# Altium schematic symbol library Integrated.SchLib: 69 symbols
Pins are listed as number, name and electrical type; pins without a type are passive.

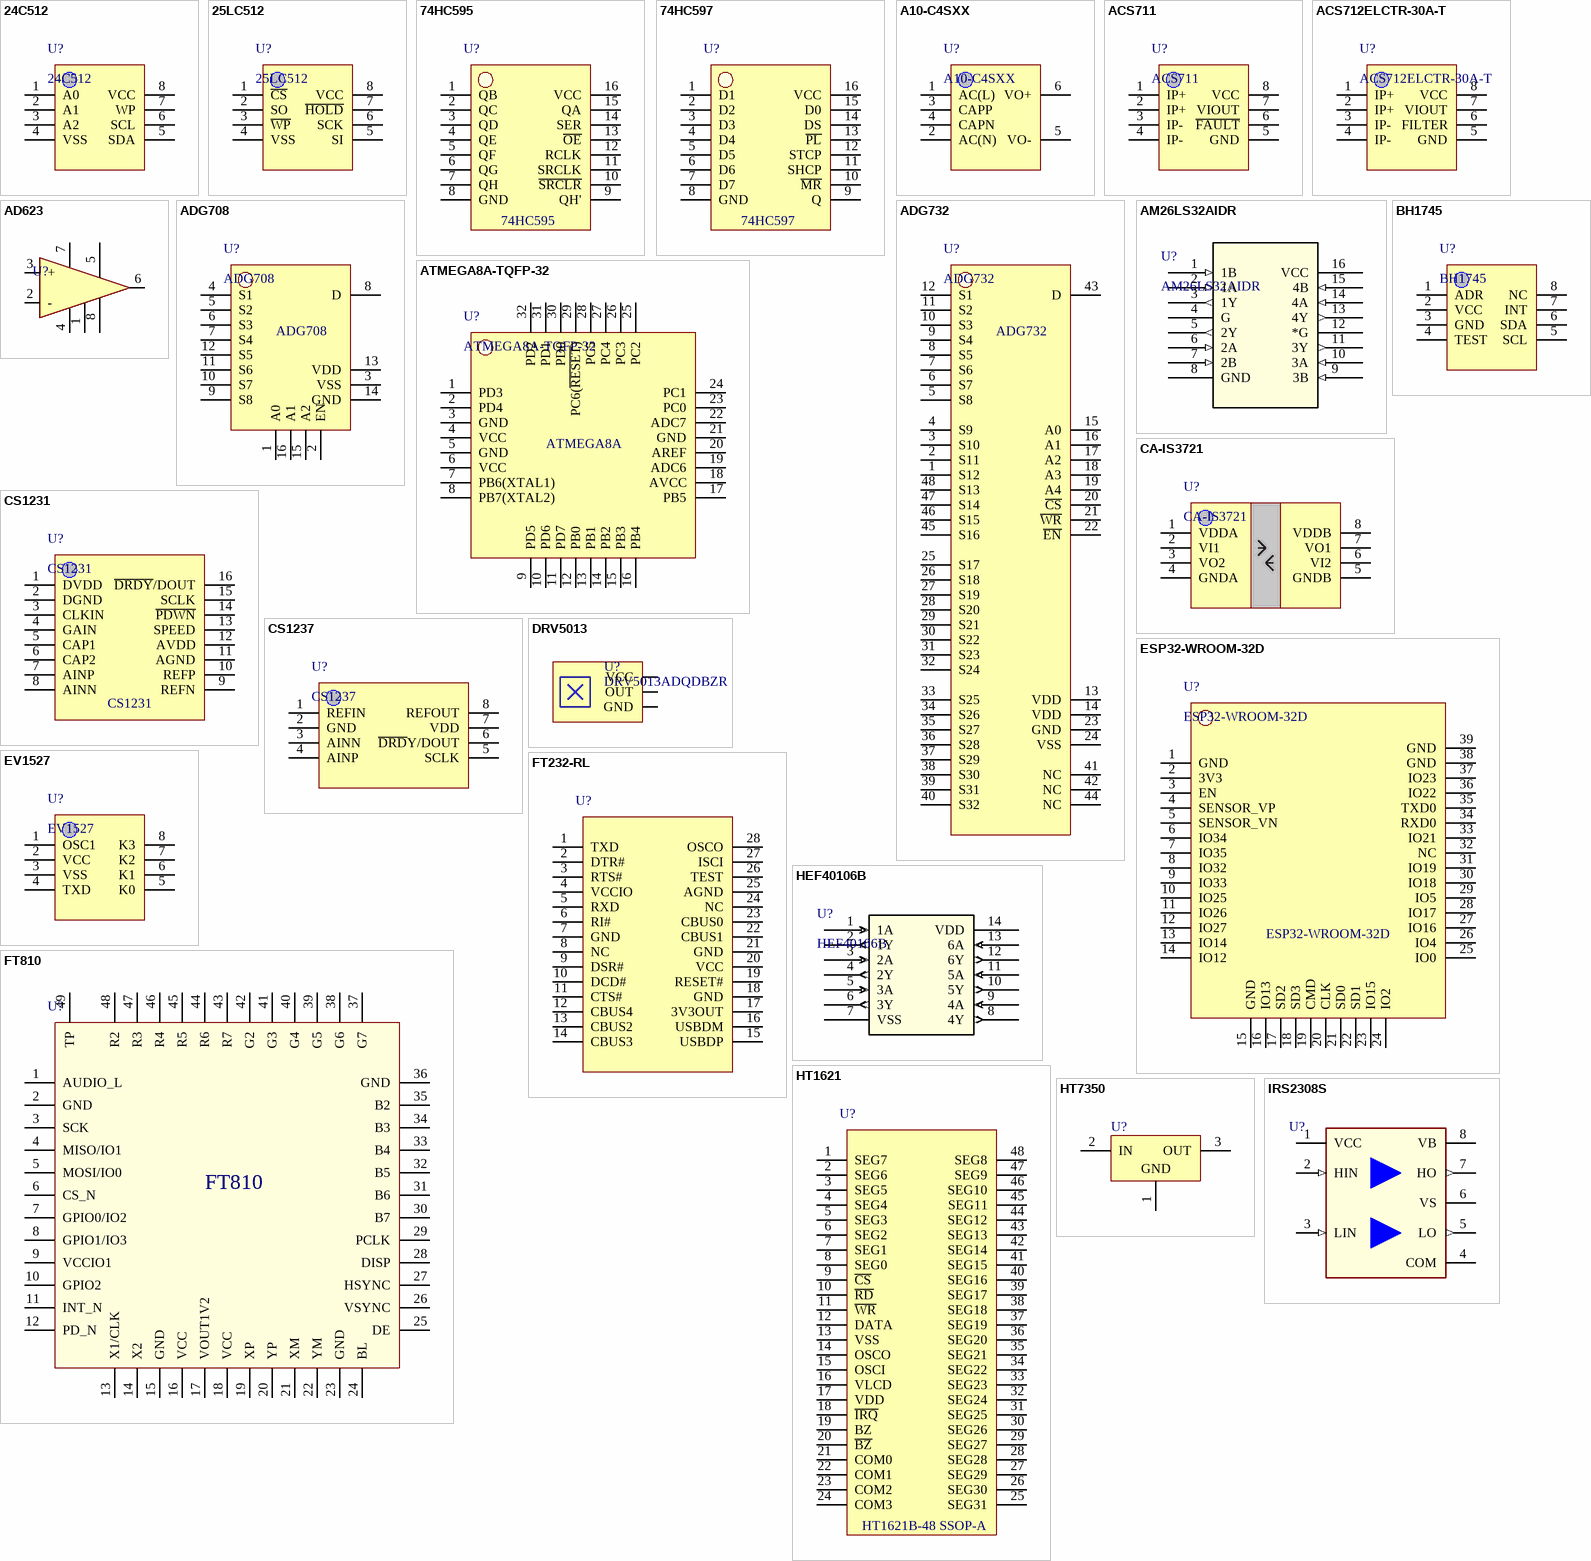
[diagram p0: symbols 24C512 to IRS2308S]

## 24C512
designator U?
footprint SOIC-8-M (SOIC, 8-Leads, Body 4.90x3.90mm, Pitch 1.27mm, IPC Low Density)
footprint SOIC-8-N (SOIC, 8-Leads, Body 4.90x3.90mm, Pitch 1.27mm, IPC Medium Density)
footprint SOIC-8-L (SOIC, 8-Leads, Body 4.90x3.90mm, Pitch 1.27mm, IPC High Density)
pins: 1 A0, 2 A1, 3 A2, 4 VSS, 5 SDA, 6 SCL, 7 WP, 8 VCC

## 25LC512
designator U?
footprint SOIC-8-M (SOIC, 8-Leads, Body 4.90x3.90mm, Pitch 1.27mm, IPC Low Density)
footprint SOIC-8-N (SOIC, 8-Leads, Body 4.90x3.90mm, Pitch 1.27mm, IPC Medium Density)
footprint SOIC-8-L (SOIC, 8-Leads, Body 4.90x3.90mm, Pitch 1.27mm, IPC High Density)
pins: 1 ~{CS}, 2 SO, 3 ~{WP}, 4 VSS, 5 SI, 6 SCK, 7 ~{HOLD}, 8 VCC

## 74HC595
designator U?  (value not drawn)
footprint SOIC-16-M (SOIC, 16-Leads, Body 9.90x3.90mm, Pitch 1.27mm, IPC Low Density)
footprint SOIC-16-N (SOIC, 16-Leads, Body 9.90x3.90mm, Pitch 1.27mm, IPC Medium Density)
footprint SOIC-16-L (SOIC, 16-Leads, Body 9.90x3.90mm, Pitch 1.27mm, IPC High Density)
pins: 1 QB, 2 QC, 3 QD, 4 QE, 5 QF, 6 QG, 7 QH, 8 GND, 9 QH', 10 ~{SRCLR}, 11 SRCLK, 12 RCLK, 13 ~{OE}, 14 SER, 15 QA, 16 VCC

## 74HC597
designator U?  (value not drawn)
footprint SOIC-16-M (SOIC, 16-Leads, Body 9.90x3.90mm, Pitch 1.27mm, IPC Low Density)
footprint SOIC-16-N (SOIC, 16-Leads, Body 9.90x3.90mm, Pitch 1.27mm, IPC Medium Density)
footprint SOIC-16-L (SOIC, 16-Leads, Body 9.90x3.90mm, Pitch 1.27mm, IPC High Density)
pins: 1 D1, 2 D2, 3 D3, 4 D4, 5 D5, 6 D6, 7 D7, 8 GND, 9 Q, 10 ~{MR}, 11 SHCP, 12 STCP, 13 ~{PL}, 14 DS, 15 D0, 16 VCC

## A10-C4SXX
designator U?
footprint A10-C4SXX
pins: 1 AC(L), 2 AC(N), 3 CAPP, 4 CAPN, 5 VO-, 6 VO+

## ACS711
designator U?
footprint SOIC-8-M (SOIC, 8-Leads, Body 4.90x3.90mm, Pitch 1.27mm, IPC Low Density)
footprint SOIC-8-N (SOIC, 8-Leads, Body 4.90x3.90mm, Pitch 1.27mm, IPC Medium Density)
footprint SOIC-8-L (SOIC, 8-Leads, Body 4.90x3.90mm, Pitch 1.27mm, IPC High Density)
pins: 1 IP+, 2 IP+, 3 IP-, 4 IP-, 5 GND, 6 ~{FAULT}, 7 VIOUT, 8 VCC

## ACS712ELCTR-30A-T
designator U?
Link: https://ozdisan.com/integrated-circuits-ics/interfaces-and-peripherals-ics/sensor-and-transducer-interfaces/ACS712ELCTR-30A-T/500389
footprint SOIC-8-M (SOIC, 8-Leads, Body 4.90x3.90mm, Pitch 1.27mm, IPC Low Density)
footprint SOIC-8-N (SOIC, 8-Leads, Body 4.90x3.90mm, Pitch 1.27mm, IPC Medium Density)
footprint SOIC-8-L (SOIC, 8-Leads, Body 4.90x3.90mm, Pitch 1.27mm, IPC High Density)
pins: 1 IP+, 2 IP+, 3 IP-, 4 IP-, 5 GND, 6 FILTER, 7 VIOUT, 8 VCC

## AD623
designator U?  (value not drawn)
footprint SOIC-8-M (SOIC, 8-Leads, Body 4.90x3.90mm, Pitch 1.27mm, IPC Low Density)
footprint SOIC-8-N (SOIC, 8-Leads, Body 4.90x3.90mm, Pitch 1.27mm, IPC Medium Density)
footprint SOIC-8-L (SOIC, 8-Leads, Body 4.90x3.90mm, Pitch 1.27mm, IPC High Density)
pins: 1 Rg-, 2 -, 3 +, 4 V-, 5 Vref, 6 Out, 7 V+, 8 Rg+

## ADG708
designator U?
footprint TSOP-16-M (TSOP, 16-Leads, Body 5.00x4.40mm, Pitch 0.65mm, IPC Low Density)
footprint TSOP-16-N (TSOP, 16-Leads, Body 5.00x4.40mm, Pitch 0.65mm, IPC Medium Density)
footprint TSOP-16-L (TSOP, 16-Leads, Body 5.00x4.40mm, Pitch 0.65mm, IPC High Density)
pins: 1 A0, 2 EN, 3 VSS, 4 S1, 5 S2, 6 S3, 7 S4, 8 D, 9 S8, 10 S7, 11 S6, 12 S5, 13 VDD, 14 GND, 15 A2, 16 A1

## ADG732
designator U?
footprint TSQFP-48-M (TSQFP, 48-Leads, Body 7.00x7.00mm, Pitch 0.50mm, IPC Low Density)
footprint TSQFP-48-N (TSQFP, 48-Leads, Body 7.00x7.00mm, Pitch 0.50mm, IPC Medium Density)
footprint TSQFP-48-L (TSQFP, 48-Leads, Body 7.00x7.00mm, Pitch 0.50mm, IPC High Density)
pins: 1 S12, 2 S11, 3 S10, 4 S9, 5 S8, 6 S7, 7 S6, 8 S5, 9 S4, 10 S3, 11 S2, 12 S1, 13 VDD, 14 VDD, 15 A0, 16 A1, 17 A2, 18 A3, 19 A4, 20 ~{CS}, 21 ~{WR}, 22 ~{EN}, 23 GND, 24 VSS, 25 S17, 26 S18, 27 S19, 28 S20, 29 S21, 30 S22, 31 S23, 32 S24, 33 S25, 34 S26, 35 S27, 36 S28, 37 S29, 38 S30, 39 S31, 40 S32, 41 NC, 42 NC, 43 D, 44 NC, 45 S16, 46 S15, 47 S14, 48 S13

## AM26LS32AIDR
designator U?
footprint SOIC-16-M (SOIC, 16-Leads, Body 9.90x3.90mm, Pitch 1.27mm, IPC Low Density)
footprint SOIC-16-N (SOIC, 16-Leads, Body 9.90x3.90mm, Pitch 1.27mm, IPC Medium Density)
footprint SOIC-16-L (SOIC, 16-Leads, Body 9.90x3.90mm, Pitch 1.27mm, IPC High Density)
pins: 1 1B (in), 2 1A (in), 3 1Y (out), 4 G, 5 2Y (out), 6 2A (in), 7 2B (in), 8 GND (power), 9 3B (in), 10 3A (in), 11 3Y (out), 12 *G, 13 4Y (out), 14 4A (in), 15 4B (in), 16 VCC (power)

## ATMEGA8A-TQFP-32
designator U?
footprint TSQFP-32-L-0.8 (TQFP, 32-Leads, Body 7.00x7.00mm, Pitch 0.80mm, IPC High Density)
footprint TSQFP-32-M-0.8 (TQFP, 32-Leads, Body 7.00x7.00mm, Pitch 0.80mm, IPC Low Density)
footprint TSQFP-32-N-0.8 (TQFP, 32-Leads, Body 7.00x7.00mm, Pitch 0.80mm, IPC Medium Density)
pins: 1 PD3, 2 PD4, 3 GND, 4 VCC, 5 GND, 6 VCC, 7 PB6(XTAL1), 8 PB7(XTAL2), 9 PD5, 10 PD6, 11 PD7, 12 PB0, 13 PB1, 14 PB2, 15 PB3, 16 PB4, 17 PB5, 18 AVCC, 19 ADC6, 20 AREF, 21 GND, 22 ADC7, 23 PC0, 24 PC1, 25 PC2, 26 PC3, 27 PC4, 28 PC5, 29 PC6(~{RESET}), 30 PD0, 31 PD1, 32 PD2
text: ATMEGA8A

## BH1745
designator U?
pins: 1 ADR, 2 VCC, 3 GND, 4 TEST, 5 SCL, 6 SDA, 7 INT, 8 NC

## CA-IS3721
designator U?
footprint SOIC-8-M (SOIC, 8-Leads, Body 4.90x3.90mm, Pitch 1.27mm, IPC Low Density)
footprint SOIC-8-N (SOIC, 8-Leads, Body 4.90x3.90mm, Pitch 1.27mm, IPC Medium Density)
footprint SOIC-8-L (SOIC, 8-Leads, Body 4.90x3.90mm, Pitch 1.27mm, IPC High Density)
pins: 1 VDDA, 2 VI1, 3 VO2, 4 GNDA, 5 GNDB, 6 VI2, 7 VO1, 8 VDDB

## CS1231
designator U?
footprint SOIC-16-M (SOIC, 16-Leads, Body 9.90x3.90mm, Pitch 1.27mm, IPC Low Density)
footprint SOIC-16-N (SOIC, 16-Leads, Body 9.90x3.90mm, Pitch 1.27mm, IPC Medium Density)
footprint SOIC-16-L (SOIC, 16-Leads, Body 9.90x3.90mm, Pitch 1.27mm, IPC High Density)
pins: 1 DVDD, 2 DGND, 3 CLKIN, 4 GAIN, 5 CAP1, 6 CAP2, 7 AINP, 8 AINN, 9 REFN, 10 REFP, 11 AGND, 12 AVDD, 13 SPEED, 14 ~{PDWN}, 15 SCLK, 16 ~{DRDY}/DOUT

## CS1237
designator U?
footprint SOIC-8-M (SOIC, 8-Leads, Body 4.90x3.90mm, Pitch 1.27mm, IPC Low Density)
footprint SOIC-8-N (SOIC, 8-Leads, Body 4.90x3.90mm, Pitch 1.27mm, IPC Medium Density)
footprint SOIC-8-L (SOIC, 8-Leads, Body 4.90x3.90mm, Pitch 1.27mm, IPC High Density)
pins: 1 REFIN, 2 GND, 3 AINN, 4 AINP, 5 SCLK, 6 ~{DRD}Y/DOUT, 7 VDD, 8 REFOUT

## DRV5013
designator U?, comment DRV5013ADQDBZR
footprint SOT23-3-M (SOT23, 3-Leads, Body 2.90x2.45mm, Pitch 0.95mm, IPC Low Density)
footprint SOT23-3-N (SOT23, 3-Leads, Body 2.90x2.45mm, Pitch 0.95mm, IPC Medium Density)
footprint SOT23-3-L (SOT23, 3-Leads, Body 2.90x2.45mm, Pitch 0.95mm, IPC High Density)
pins: 1 VCC, 2 OUT, 3 GND

## ESP32-WROOM-32D
designator U?
footprint ESP32-WROOM-32
pins: 1 GND (power), 2 3V3, 3 EN, 4 SENSOR_VP, 5 SENSOR_VN, 6 IO34, 7 IO35, 8 IO32 (power), 9 IO33 (power), 10 IO25, 11 IO26, 12 IO27, 13 IO14, 14 IO12, 15 GND, 16 IO13, 17 SD2, 18 SD3, 19 CMD, 20 CLK, 21 SD0, 22 SD1, 23 IO15 (power), 24 IO2 (power), 25 IO0, 26 IO4, 27 IO16, 28 IO17, 29 IO5, 30 IO18, 31 IO19, 32 NC, 33 IO21, 34 RXD0, 35 TXD0 (power), 36 IO22 (power), 37 IO23 (power), 38 GND (power), 39 GND (power)

## EV1527
designator U?
footprint SOIC-8-M (SOIC, 8-Leads, Body 4.90x3.90mm, Pitch 1.27mm, IPC Low Density)
footprint SOIC-8-N (SOIC, 8-Leads, Body 4.90x3.90mm, Pitch 1.27mm, IPC Medium Density)
footprint SOIC-8-L (SOIC, 8-Leads, Body 4.90x3.90mm, Pitch 1.27mm, IPC High Density)
pins: 1 OSC1, 2 VCC, 3 VSS, 4 TXD, 5 K0, 6 K1, 7 K2, 8 K3

## FT232-RL
designator U?  (value not drawn)
footprint TSOP-28-L (SOP, 28-Leads, Body 10.20x5.30mm, Pitch 0.65mm, IPC High Density)
footprint TSOP-28-M (SOP, 28-Leads, Body 10.20x5.30mm, Pitch 0.65mm, IPC Low Density)
footprint TSOP-28-N (SOP, 28-Leads, Body 10.20x5.30mm, Pitch 0.65mm, IPC Medium Density)
pins: 1 TXD, 2 DTR#, 3 RTS#, 4 VCCIO, 5 RXD, 6 RI#, 7 GND, 8 NC, 9 DSR#, 10 DCD#, 11 CTS#, 12 CBUS4, 13 CBUS2, 14 CBUS3, 15 USBDP, 16 USBDM, 17 3V3OUT, 18 GND, 19 RESET#, 20 VCC, 21 GND, 22 CBUS1, 23 CBUS0, 24 NC, 25 AGND, 26 TEST, 27 ISCI, 28 OSCO

## FT810
designator U?  (value not drawn)
pins: 1 AUDIO_L, 2 GND, 3 SCK, 4 MISO/IO1, 5 MOSI/IO0, 6 CS_N, 7 GPIO0/IO2, 8 GPIO1/IO3, 9 VCCIO1, 10 GPIO2, 11 INT_N, 12 PD_N, 13 X1/CLK, 14 X2, 15 GND, 16 VCC, 17 VOUT1V2, 18 VCC, 19 XP, 20 YP, 21 XM, 22 YM, 23 GND, 24 BL, 25 DE, 26 VSYNC, 27 HSYNC, 28 DISP, 29 PCLK, 30 B7, 31 B6, 32 B5, 33 B4, 34 B3, 35 B2, 36 GND, 37 G7, 38 G6, 39 G5, 40 G4, 41 G3, 42 G2, 43 R7, 44 R6, 45 R5, 46 R4, 47 R3, 48 R2, 49 TP

## HEF40106B
designator U?
footprint SOIC-14-M (SOIC, 14-Leads, Body 8.65x3.90mm, Pitch 1.27mm, IPC Low Density)
footprint SOIC-14-N (SOIC, 14-Leads, Body 8.65x3.90mm, Pitch 1.27mm, IPC Medium Density)
footprint SOIC-14-L (SOIC, 14-Leads, Body 8.65x3.90mm, Pitch 1.27mm, IPC High Density)
pins: 1 1A (in), 2 1Y (out), 3 2A (in), 4 2Y (out), 5 3A (in), 6 3Y (out), 7 VSS (power), 8 4Y (out), 9 4A (in), 10 5Y (out), 11 5A (in), 12 6Y (out), 13 6A (in), 14 VDD (power)

## HT1621
designator U?  (value not drawn)
footprint SSOP-48-M (SOP, 48-Leads, Body 15,88x7,49mm, Pitch 0,64mm, IPC Low Density)
footprint SSOP-48-N (SOP, 48-Leads, Body 15,88x7,49mm, Pitch 0,64mm, IPC Medium Density)
footprint SSOP-48-L (SOP, 48-Leads, Body 15,88x7,49mm, Pitch 0,64mm, IPC High Density)
pins: 1 SEG7, 2 SEG6, 3 SEG5, 4 SEG4, 5 SEG3, 6 SEG2, 7 SEG1, 8 SEG0, 9 ~{CS}, 10 ~{RD}, 11 ~{WR}, 12 DATA, 13 VSS, 14 OSCO, 15 OSCI, 16 VLCD, 17 VDD, 18 ~{IRQ}, 19 BZ, 20 ~{BZ}, 21 COM0, 22 COM1, 23 COM2, 24 COM3, 25 SEG31, 26 SEG30, 27 SEG29, 28 SEG28, 29 SEG27, 30 SEG26, 31 SEG25, 32 SEG24, 33 SEG23, 34 SEG22, 35 SEG21, 36 SEG20, 37 SEG19, 38 SEG18, 39 SEG17, 40 SEG16, 41 SEG15, 42 SEG14, 43 SEG13, 44 SEG12, 45 SEG11, 46 SEG10, 47 SEG9, 48 SEG8
text: HT1621B-48 SSOP-A

## HT7350
designator U?  (value not drawn)
footprint SOT89-3-M (SOT89, 3-Leads, Body 4.50x2.45mm, Pitch 1.50mm, Lead Span 4.1mm, IPC Low Density)
footprint SOT89-3-N (SOT89, 3-Leads, Body 4.50x2.45mm, Pitch 1.50mm, Lead Span 4.1mm, IPC Medium Density)
footprint SOT89-3-L (SOT89, 3-Leads, Body 4.50x2.45mm, Pitch 1.50mm, Lead Span 4.1mm, IPC High Density)
pins: 1 GND, 2 IN, 3 OUT

## IRS2308S
designator U?  (value not drawn)
footprint SOIC-8-M (SOIC, 8-Leads, Body 4.90x3.90mm, Pitch 1.27mm, IPC Low Density)
footprint SOIC-8-N (SOIC, 8-Leads, Body 4.90x3.90mm, Pitch 1.27mm, IPC Medium Density)
footprint SOIC-8-L (SOIC, 8-Leads, Body 4.90x3.90mm, Pitch 1.27mm, IPC High Density)
pins: 1 VCC (power) "Low-side and logic fixed supply", 2 HIN (in) "Logic input for high-side gate driver output (HO), in phase with HO", 3 LIN (in) "Logic input for low-side gate driver output (LO), in phase with LO", 4 COM "Low-side return", 5 LO (out) "Low-side gate drive output", 6 VS (power) "High-side floating supply return", 7 HO (out) "High-side gate drive output", 8 VB (power) "High-side floating supply"

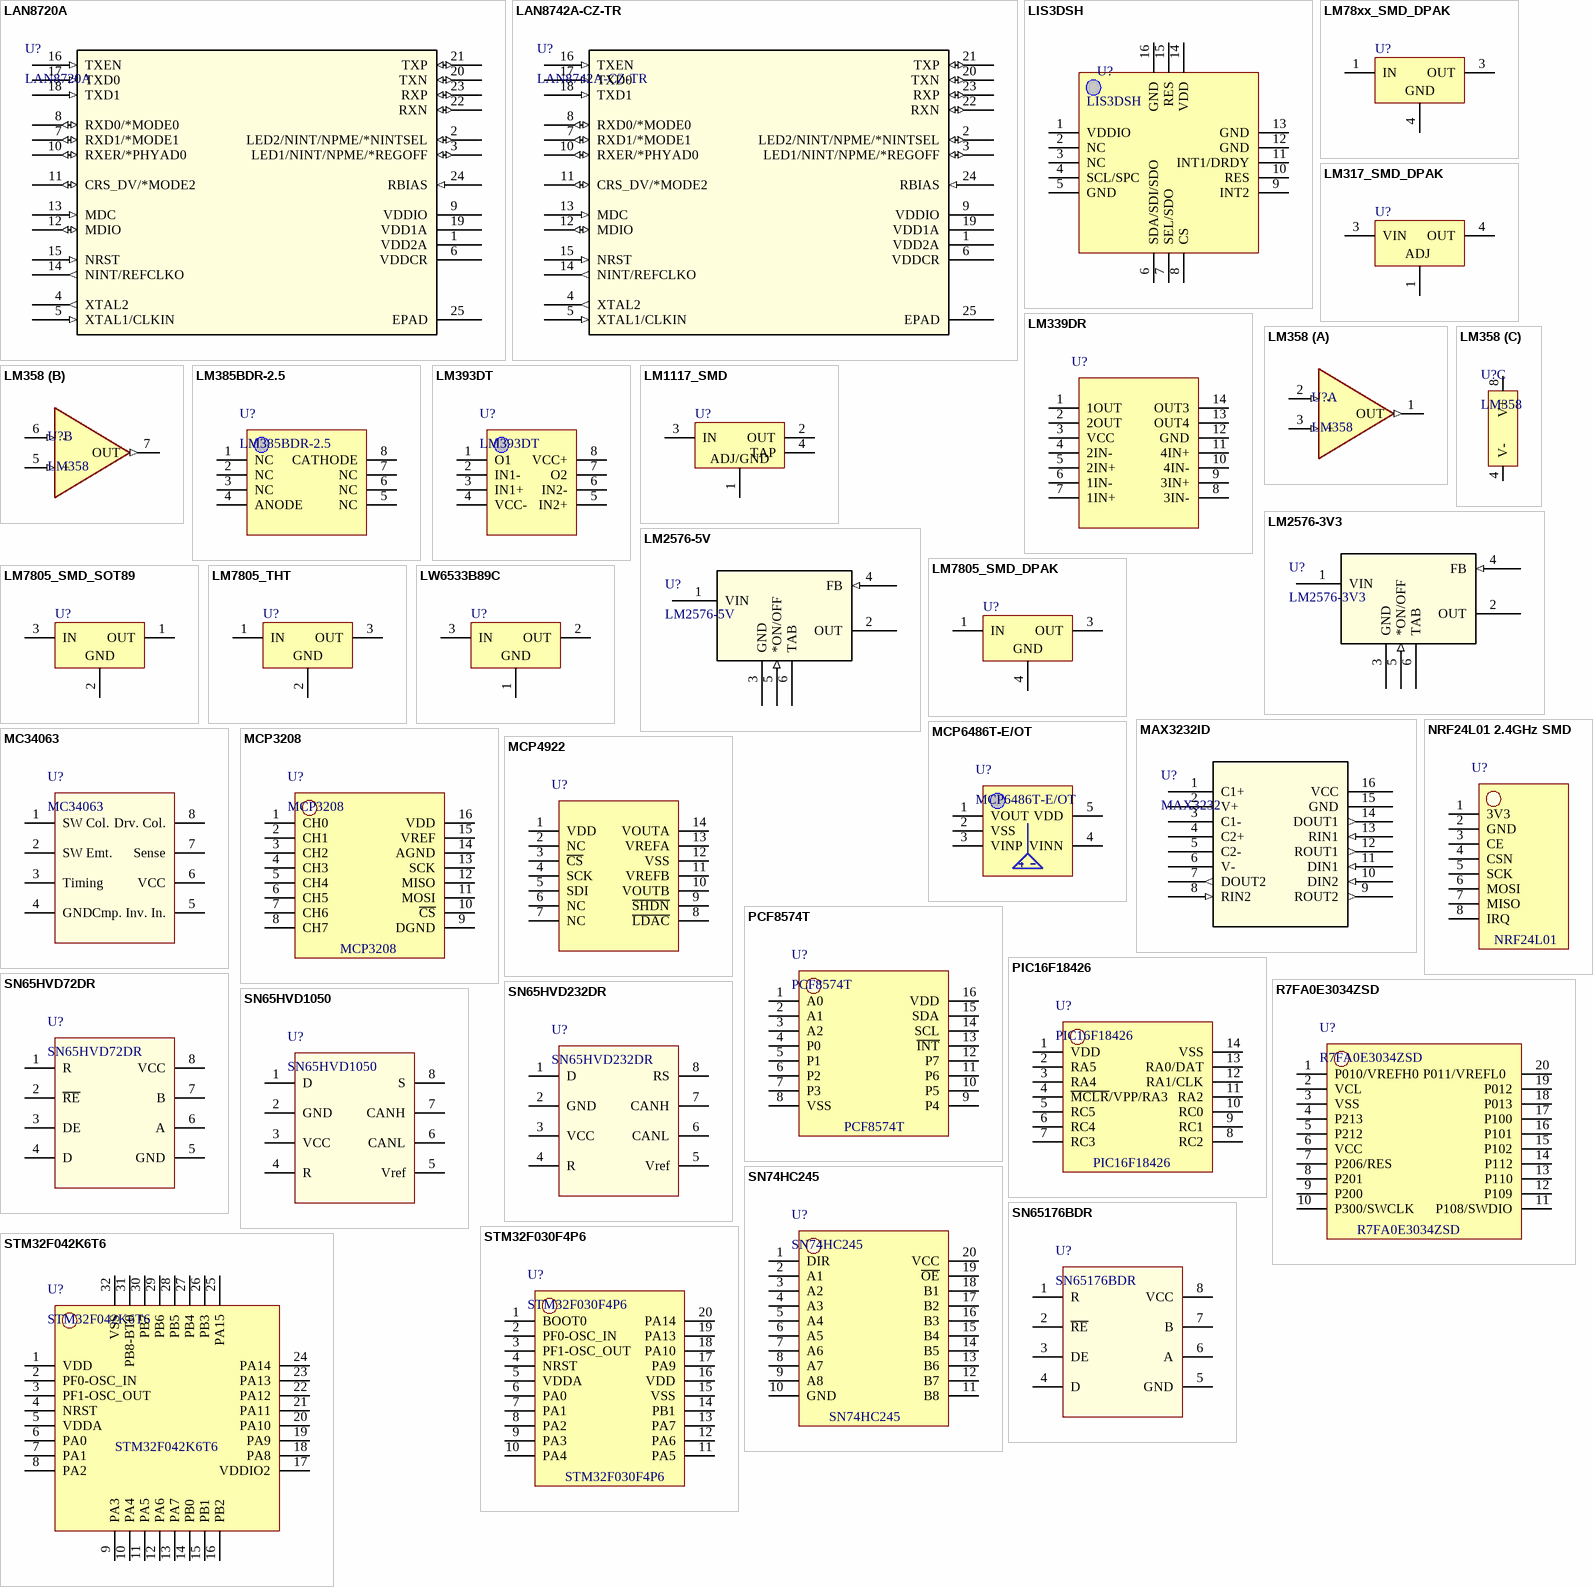
[diagram p1: symbols LAN8720A to STM32F042K6T6]

## LAN8720A
designator U?
footprint SQFN24_4X4MC_MCH
footprint SQFN24_4X4MC_MCH_EXTPAD
pins: 1 VDD2A (power), 2 LED2/NINT/NPME/*NINTSEL (io), 3 LED1/NINT/NPME/*REGOFF (io), 4 XTAL2 (out), 5 XTAL1/CLKIN (in), 6 VDDCR (power), 7 RXD1/*MODE1 (io), 8 RXD0/*MODE0 (io), 9 VDDIO (power), 10 RXER/*PHYAD0 (io), 11 CRS_DV/*MODE2 (io), 12 MDIO (io), 13 MDC (in), 14 NINT/REFCLKO (out), 15 NRST (in), 16 TXEN (in), 17 TXD0 (in), 18 TXD1 (in), 19 VDD1A (power), 20 TXN (io), 21 TXP (io), 22 RXN (io), 23 RXP (io), 24 RBIAS (in), 25 EPAD

## LAN8742A-CZ-TR
designator U?
footprint SQFN24_4X4MC_MCH
pins: 1 VDD2A (power), 2 LED2/NINT/NPME/*NINTSEL (io), 3 LED1/NINT/NPME/*REGOFF (io), 4 XTAL2 (out), 5 XTAL1/CLKIN (in), 6 VDDCR (power), 7 RXD1/*MODE1 (io), 8 RXD0/*MODE0 (io), 9 VDDIO (power), 10 RXER/*PHYAD0 (io), 11 CRS_DV/*MODE2 (io), 12 MDIO (io), 13 MDC (in), 14 NINT/REFCLKO (out), 15 NRST (in), 16 TXEN (in), 17 TXD0 (in), 18 TXD1 (in), 19 VDD1A (power), 20 TXN (io), 21 TXP (io), 22 RXN (io), 23 RXP (io), 24 RBIAS (in), 25 EPAD

## LIS3DSH
designator U?
pins: 1 VDDIO (power), 2 NC (power), 3 NC (power), 4 SCL/SPC (power), 5 GND (power), 6 SDA/SDI/SDO (power), 7 SEL/SDO (power), 8 CS (power), 9 INT2 (power), 10 RES (power), 11 INT1/DRDY (power), 12 GND (power), 13 GND (power), 14 VDD (power), 15 RES (power), 16 GND (power)

## LM78xx_SMD_DPAK
designator U?  (value not drawn)
footprint DPAK-TO252-3-L (D-PAK, 3-Pads, Body 6.20x6.72mm (max), IPC High Density)
footprint DPAK-TO252-3-M (D-PAK, 3-Pads, Body 6.20x6.72mm (max), IPC Low Density)
footprint DPAK-TO252-3-N (D-PAK, 3-Pads, Body 6.20x6.72mm (max), IPC Medium Density)
pins: 1 IN, 3 OUT, 4 GND

## LM317_SMD_DPAK
designator U?  (value not drawn)
footprint DPAK-TO252-3-L (D-PAK, 3-Pads, Body 6.20x6.72mm (max), IPC High Density)
footprint DPAK-TO252-3-M (D-PAK, 3-Pads, Body 6.20x6.72mm (max), IPC Low Density)
footprint DPAK-TO252-3-N (D-PAK, 3-Pads, Body 6.20x6.72mm (max), IPC Medium Density)
pins: 1 ADJ, 3 VIN, 4 OUT

## LM339DR
designator U?, comment LM339  (value not drawn)
footprint SOIC-14-M (SOIC, 14-Leads, Body 8.65x3.90mm, Pitch 1.27mm, IPC Low Density)
footprint SOIC-14-N (SOIC, 14-Leads, Body 8.65x3.90mm, Pitch 1.27mm, IPC Medium Density)
footprint SOIC-14-L (SOIC, 14-Leads, Body 8.65x3.90mm, Pitch 1.27mm, IPC High Density)
pins: 1 1OUT, 2 2OUT, 3 VCC, 4 2IN-, 5 2IN+, 6 1IN-, 7 1IN+, 8 3IN-, 9 3IN+, 10 4IN-, 11 4IN+, 12 GND, 13 OUT4, 14 OUT3

## LM358
designator U?
footprint SOIC-8-M (SOIC, 8-Leads, Body 4.90x3.90mm, Pitch 1.27mm, IPC Low Density)
footprint SOIC-8-N (SOIC, 8-Leads, Body 4.90x3.90mm, Pitch 1.27mm, IPC Medium Density)
footprint SOIC-8-L (SOIC, 8-Leads, Body 4.90x3.90mm, Pitch 1.27mm, IPC High Density)
part A pins: 1 OUT (out), 2 - (in), 3 + (in)
part B pins: 5 + (in), 6 - (in), 7 OUT (out)
part C pins: 4 V- (power), 8 V+ (power)

## LM385BDR-2.5
designator U?
footprint SOIC-8-M (SOIC, 8-Leads, Body 4.90x3.90mm, Pitch 1.27mm, IPC Low Density)
footprint SOIC-8-N (SOIC, 8-Leads, Body 4.90x3.90mm, Pitch 1.27mm, IPC Medium Density)
footprint SOIC-8-L (SOIC, 8-Leads, Body 4.90x3.90mm, Pitch 1.27mm, IPC High Density)
pins: 1 NC, 2 NC, 3 NC, 4 ANODE, 5 NC, 6 NC, 7 NC, 8 CATHODE

## LM393DT
designator U?
footprint SOIC-8-M (SOIC, 8-Leads, Body 4.90x3.90mm, Pitch 1.27mm, IPC Low Density)
footprint SOIC-8-N (SOIC, 8-Leads, Body 4.90x3.90mm, Pitch 1.27mm, IPC Medium Density)
footprint SOIC-8-L (SOIC, 8-Leads, Body 4.90x3.90mm, Pitch 1.27mm, IPC High Density)
pins: 1 O1, 2 IN1-, 3 IN1+, 4 VCC-, 5 IN2+, 6 IN2-, 7 O2, 8 VCC+

## LM1117_SMD
designator U?  (value not drawn)
footprint SOT223-4M (SOT223, 4-Leads, Body 6,50x7,00mm (avg), Pitch 2,30mm, IPC Low Density)
footprint SOT223-4N (SOT223, 4-Leads, Body 6,50x7,00mm (avg), Pitch 2,30mm, IPC Medium Density)
footprint SOT223-4L (SOT223, 4-Leads, Body 6,50x7,00mm (avg), Pitch 2,30mm, IPC High Density)
pins: 1 ADJ/GND, 2 OUT, 3 IN, 4 TAP

## LM2576-3V3
designator U?
footprint DDPAK_TO263
pins: 1 VIN (power), 2 OUT (power), 3 GND (power), 4 FB (in), 5 *ON/OFF (in), 6 TAB (power)

## LM2576-5V
designator U?
footprint DDPAK_TO263
pins: 1 VIN (power), 2 OUT (power), 3 GND (power), 4 FB (in), 5 *ON/OFF (in), 6 TAB (power)

## LM7805_SMD_DPAK
designator U?  (value not drawn)
footprint DPAK-TO252-3-L (D-PAK, 3-Pads, Body 6.20x6.72mm (max), IPC High Density)
footprint DPAK-TO252-3-M (D-PAK, 3-Pads, Body 6.20x6.72mm (max), IPC Low Density)
footprint DPAK-TO252-3-N (D-PAK, 3-Pads, Body 6.20x6.72mm (max), IPC Medium Density)
pins: 1 IN, 3 OUT, 4 GND

## LM7805_SMD_SOT89
designator U?  (value not drawn)
footprint SOT89-3-M (SOT89, 3-Leads, Body 4.50x2.45mm, Pitch 1.50mm, Lead Span 4.1mm, IPC Low Density)
footprint SOT89-3-N (SOT89, 3-Leads, Body 4.50x2.45mm, Pitch 1.50mm, Lead Span 4.1mm, IPC Medium Density)
footprint SOT89-3-L (SOT89, 3-Leads, Body 4.50x2.45mm, Pitch 1.50mm, Lead Span 4.1mm, IPC High Density)
pins: 1 OUT, 2 GND, 3 IN

## LM7805_THT
designator U?  (value not drawn)
footprint TO220AB
pins: 1 IN, 2 GND, 3 OUT

## LW6533B89C
designator U?  (value not drawn)
3.3V Regulator SOT23-3L
footprint SOT23-3-M (SOT23, 3-Leads, Body 2.90x2.45mm, Pitch 0.95mm, IPC Low Density)
footprint SOT23-3-N (SOT23, 3-Leads, Body 2.90x2.45mm, Pitch 0.95mm, IPC Medium Density)
footprint SOT23-3-L (SOT23, 3-Leads, Body 2.90x2.45mm, Pitch 0.95mm, IPC High Density)
pins: 1 GND, 2 OUT, 3 IN

## MAX3232ID
designator U?, comment MAX3232
footprint SOIC-16-M (SOIC, 16-Leads, Body 9.90x3.90mm, Pitch 1.27mm, IPC Low Density)
footprint SOIC-16-N (SOIC, 16-Leads, Body 9.90x3.90mm, Pitch 1.27mm, IPC Medium Density)
footprint SOIC-16-L (SOIC, 16-Leads, Body 9.90x3.90mm, Pitch 1.27mm, IPC High Density)
pins: 1 C1+, 2 V+ (power), 3 C1-, 4 C2+, 5 C2-, 6 V- (power), 7 DOUT2 (out), 8 RIN2 (in), 9 ROUT2 (out), 10 DIN2 (in), 11 DIN1 (in), 12 ROUT1 (out), 13 RIN1 (in), 14 DOUT1 (out), 15 GND (power), 16 VCC (power)

## MC34063
designator U?
footprint SOIC-8-M (SOIC, 8-Leads, Body 4.90x3.90mm, Pitch 1.27mm, IPC Low Density)
footprint SOIC-8-N (SOIC, 8-Leads, Body 4.90x3.90mm, Pitch 1.27mm, IPC Medium Density)
footprint SOIC-8-L (SOIC, 8-Leads, Body 4.90x3.90mm, Pitch 1.27mm, IPC High Density)
pins: 1 SW Col., 2 SW Emt. (power), 3 Timing (power), 4 GND, 5 Cmp. Inv. In., 6 VCC, 7 Sense, 8 Drv. Col.

## MCP3208
designator U?
footprint SOIC-16-M (SOIC, 16-Leads, Body 9.90x3.90mm, Pitch 1.27mm, IPC Low Density)
footprint SOIC-16-N (SOIC, 16-Leads, Body 9.90x3.90mm, Pitch 1.27mm, IPC Medium Density)
footprint SOIC-16-L (SOIC, 16-Leads, Body 9.90x3.90mm, Pitch 1.27mm, IPC High Density)
pins: 1 CH0, 2 CH1, 3 CH2, 4 CH3, 5 CH4, 6 CH5, 7 CH6, 8 CH7, 9 DGND, 10 ~{CS}, 11 MOSI, 12 MISO, 13 SCK, 14 AGND, 15 VREF, 16 VDD

## MCP4922
designator U?  (value not drawn)
pins: 1 VDD, 2 NC, 3 ~{CS}, 4 SCK, 5 SDI, 6 NC, 7 NC, 8 ~{LDAC}, 9 ~{SHDN}, 10 VOUTB, 11 VREFB, 12 VSS, 13 VREFA, 14 VOUTA

## MCP6486T-E/OT
designator U?
footprint SOT23-5-M (SOT23, 5-Leads, Body 2,90x2,45mm, Pitch 0,95mm, IPC Low Density)
footprint SOT23-5-N (SOT23, 5-Leads, Body 2,90x2,45mm, Pitch 0,95mm, IPC Medium Density)
footprint SOT23-5-L (SOT23, 5-Leads, Body 2,90x2,45mm, Pitch 0,95mm, IPC High Density)
pins: 1 VOUT, 2 VSS, 3 VINP, 4 VINN, 5 VDD

## NRF24L01 2.4GHz SMD
designator U?  (value not drawn)
footprint NRF24L01_SMD
pins: 1 3V3, 2 GND, 3 CE, 4 CSN, 5 SCK, 6 MOSI, 7 MISO, 8 IRQ
text: NRF24L01

## PCF8574T
designator U?
footprint SOIC-16-M (SOIC, 16-Leads, Body 9.90x3.90mm, Pitch 1.27mm, IPC Low Density)
footprint SOIC-16-N (SOIC, 16-Leads, Body 9.90x3.90mm, Pitch 1.27mm, IPC Medium Density)
footprint SOIC-16-L (SOIC, 16-Leads, Body 9.90x3.90mm, Pitch 1.27mm, IPC High Density)
pins: 1 A0, 2 A1, 3 A2, 4 P0, 5 P1, 6 P2, 7 P3, 8 VSS, 9 P4, 10 P5, 11 P6, 12 P7, 13 ~{INT}, 14 SCL, 15 SDA, 16 VDD

## PIC16F18426
designator U?
pins: 1 VDD (power), 2 RA5 (power), 3 RA4 (power), 4 ~{MCLR}/VPP/RA3 (power), 5 RC5 (power), 6 RC4 (power), 7 RC3 (power), 8 RC2 (power), 9 RC1 (power), 10 RC0 (power), 11 RA2 (power), 12 RA1/CLK (power), 13 RA0/DAT (power), 14 VSS (power)

## R7FA0E3034ZSD
designator U?
footprint TSOP-20-M (TSOP, 20-Leads, Body 6.50x4.40mm, Pitch 0.65mm, IPC Low Density)
footprint TSOP-20-N (TSOP, 20-Leads, Body 6.50x4.40mm, Pitch 0.65mm, IPC Medium Density)
footprint TSOP-20-L (TSOP, 20-Leads, Body 6.50x4.40mm, Pitch 0.65mm, IPC High Density)
pins: 1 P010/VREFH0 (power), 2 VCL (power), 3 VSS (power), 4 P213 (power), 5 P212 (power), 6 VCC (power), 7 P206/RES   (power), 8 P201 (power), 9 P200 (power), 10 P300/SWCLK (power), 11 P108/SWDIO (power), 12 P109 (power), 13 P110 (power), 14 P112 (power), 15 P102 (power), 16 P101 (power), 17 P100 (power), 18 P013 (power), 19 P012 (power), 20 P011/VREFL0   (power)

## SN65HVD72DR
designator U?
footprint SOIC-8-L (SOIC, 8-Leads, Body 4.90x3.90mm, Pitch 1.27mm, IPC High Density)
footprint SOIC-8-N (SOIC, 8-Leads, Body 4.90x3.90mm, Pitch 1.27mm, IPC Medium Density)
footprint SOIC-8-M (SOIC, 8-Leads, Body 4.90x3.90mm, Pitch 1.27mm, IPC Low Density)
pins: 1 R, 2 ~{RE}, 3 DE, 4 D, 5 GND (power), 6 A, 7 B, 8 VCC (power)

## SN65HVD232DR
designator U?
footprint SOIC-8-M (SOIC, 8-Leads, Body 4.90x3.90mm, Pitch 1.27mm, IPC Low Density)
footprint SOIC-8-N (SOIC, 8-Leads, Body 4.90x3.90mm, Pitch 1.27mm, IPC Medium Density)
footprint SOIC-8-L (SOIC, 8-Leads, Body 4.90x3.90mm, Pitch 1.27mm, IPC High Density)
pins: 1 D, 2 GND (power), 3 VCC (power), 4 R, 5 Vref, 6 CANL, 7 CANH, 8 RS

## SN65HVD1050
designator U?
footprint SOIC-8-M (SOIC, 8-Leads, Body 4.90x3.90mm, Pitch 1.27mm, IPC Low Density)
footprint SOIC-8-N (SOIC, 8-Leads, Body 4.90x3.90mm, Pitch 1.27mm, IPC Medium Density)
footprint SOIC-8-L (SOIC, 8-Leads, Body 4.90x3.90mm, Pitch 1.27mm, IPC High Density)
pins: 1 D, 2 GND (power), 3 VCC (power), 4 R, 5 Vref, 6 CANL, 7 CANH, 8 S

## SN74HC245
designator U?
footprint TSOP-20-M (TSOP, 20-Leads, Body 6.50x4.40mm, Pitch 0.65mm, IPC Low Density)
footprint TSOP-20-N (TSOP, 20-Leads, Body 6.50x4.40mm, Pitch 0.65mm, IPC Medium Density)
footprint TSOP-20-L (TSOP, 20-Leads, Body 6.50x4.40mm, Pitch 0.65mm, IPC High Density)
pins: 1 DIR (power), 2 A1, 3 A2, 4 A3, 5 A4, 6 A5, 7 A6, 8 A7, 9 A8, 10 GND (power), 11 B8 (power), 12 B7 (power), 13 B6 (power), 14 B5 (power), 15 B4 (power), 16 B3 (power), 17 B2 (power), 18 B1 (power), 19 ~{OE} (power), 20 VCC (power)

## SN65176BDR
designator U?
footprint SOIC-8-M (SOIC, 8-Leads, Body 4.90x3.90mm, Pitch 1.27mm, IPC Low Density)
footprint SOIC-8-N (SOIC, 8-Leads, Body 4.90x3.90mm, Pitch 1.27mm, IPC Medium Density)
footprint SOIC-8-L (SOIC, 8-Leads, Body 4.90x3.90mm, Pitch 1.27mm, IPC High Density)
pins: 1 R, 2 ~{RE}, 3 DE, 4 D, 5 GND (power), 6 A, 7 B, 8 VCC (power)

## STM32F030F4P6
designator U?
footprint TSOP-20-M (TSOP, 20-Leads, Body 6.50x4.40mm, Pitch 0.65mm, IPC Low Density)
footprint TSOP-20-N (TSOP, 20-Leads, Body 6.50x4.40mm, Pitch 0.65mm, IPC Medium Density)
footprint TSOP-20-L (TSOP, 20-Leads, Body 6.50x4.40mm, Pitch 0.65mm, IPC High Density)
pins: 1 BOOT0 (power), 2 PF0-OSC_IN (power), 3 PF1-OSC_OUT (power), 4 NRST (power), 5 VDDA (power), 6 PA0 (power), 7 PA1 (power), 8 PA2 (power), 9 PA3 (power), 10 PA4 (power), 11 PA5 (power), 12 PA6 (power), 13 PA7 (power), 14 PB1 (power), 15 VSS (power), 16 VDD (power), 17 PA9 (power), 18 PA10 (power), 19 PA13 (power), 20 PA14 (power)

## STM32F042K6T6
designator U?
pins: 1 VDD (power), 2 PF0-OSC_IN, 3 PF1-OSC_OUT, 4 NRST, 5 VDDA (power), 6 PA0, 7 PA1, 8 PA2, 9 PA3, 10 PA4, 11 PA5, 12 PA6, 13 PA7, 14 PB0, 15 PB1, 16 PB2, 17 VDDIO2 (power), 18 PA8, 19 PA9, 20 PA10, 21 PA11, 22 PA12, 23 PA13, 24 PA14, 25 PA15, 26 PB3, 27 PB4, 28 PB5, 29 PB6, 30 PB7, 31 PB8-BT0, 32 VSS (power)

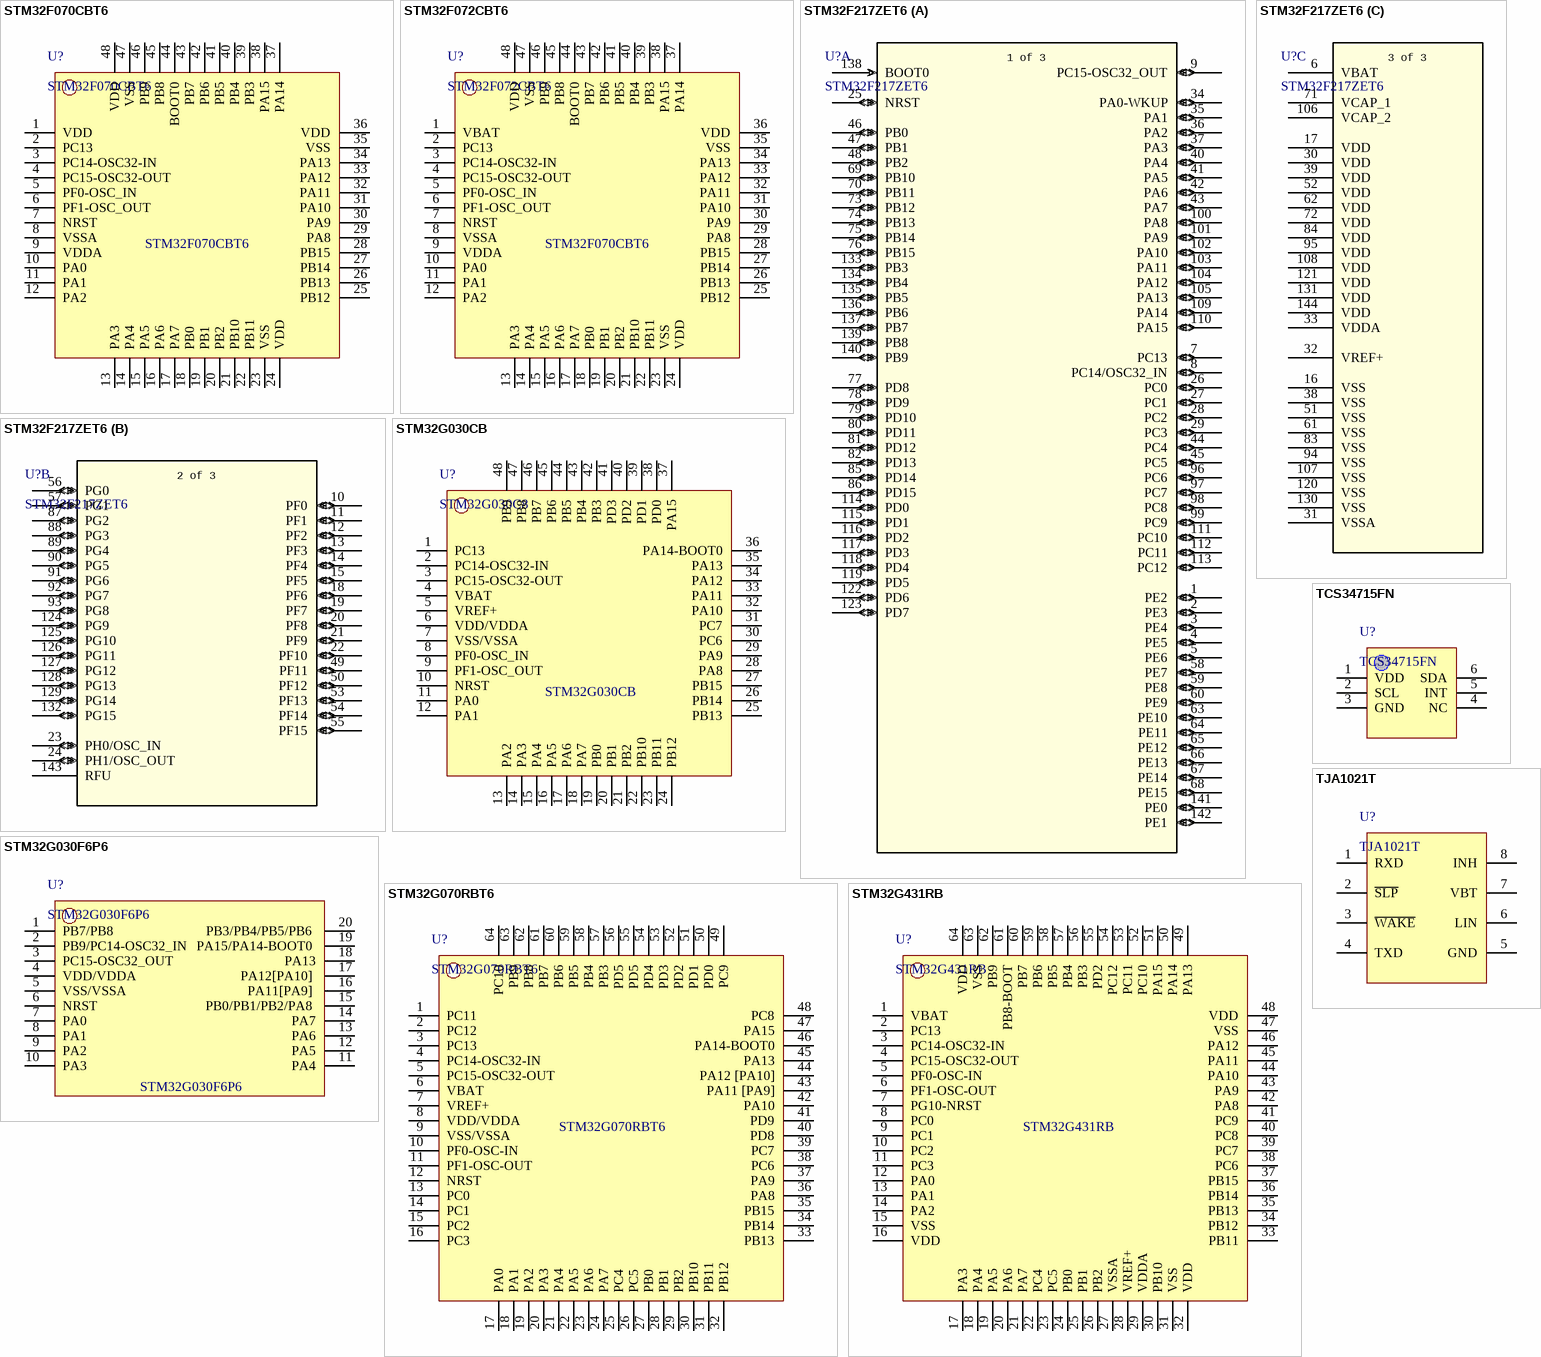
[diagram p2: symbols STM32F070CBT6 to TJA1021T]

## STM32F070CBT6
designator U?
footprint TSQFP-48-M (TSQFP, 48-Leads, Body 7.00x7.00mm, Pitch 0.50mm, IPC Low Density)
footprint TSQFP-48-N (TSQFP, 48-Leads, Body 7.00x7.00mm, Pitch 0.50mm, IPC Medium Density)
footprint TSQFP-48-L (TSQFP, 48-Leads, Body 7.00x7.00mm, Pitch 0.50mm, IPC High Density)
pins: 1 VDD (power), 2 PC13, 3 PC14-OSC32-IN, 4 PC15-OSC32-OUT, 5 PF0-OSC_IN, 6 PF1-OSC_OUT, 7 NRST, 8 VSSA (power), 9 VDDA (power), 10 PA0, 11 PA1, 12 PA2, 13 PA3, 14 PA4, 15 PA5, 16 PA6, 17 PA7, 18 PB0, 19 PB1, 20 PB2, 21 PB10, 22 PB11, 23 VSS (power), 24 VDD (power), 25 PB12, 26 PB13, 27 PB14, 28 PB15, 29 PA8, 30 PA9, 31 PA10, 32 PA11, 33 PA12, 34 PA13, 35 VSS (power), 36 VDD (power), 37 PA14, 38 PA15, 39 PB3, 40 PB4, 41 PB5, 42 PB6, 43 PB7, 44 BOOT0, 45 PB8, 46 PB9, 47 VSS (power), 48 VDD (power)

## STM32F072CBT6
designator U?
footprint TSQFP-48-M (TSQFP, 48-Leads, Body 7.00x7.00mm, Pitch 0.50mm, IPC Low Density)
footprint TSQFP-48-N (TSQFP, 48-Leads, Body 7.00x7.00mm, Pitch 0.50mm, IPC Medium Density)
footprint TSQFP-48-L (TSQFP, 48-Leads, Body 7.00x7.00mm, Pitch 0.50mm, IPC High Density)
pins: 1 VBAT (power), 2 PC13, 3 PC14-OSC32-IN, 4 PC15-OSC32-OUT, 5 PF0-OSC_IN, 6 PF1-OSC_OUT, 7 NRST, 8 VSSA (power), 9 VDDA (power), 10 PA0, 11 PA1, 12 PA2, 13 PA3, 14 PA4, 15 PA5, 16 PA6, 17 PA7, 18 PB0, 19 PB1, 20 PB2, 21 PB10, 22 PB11, 23 VSS (power), 24 VDD (power), 25 PB12, 26 PB13, 27 PB14, 28 PB15, 29 PA8, 30 PA9, 31 PA10, 32 PA11, 33 PA12, 34 PA13, 35 VSS (power), 36 VDD (power), 37 PA14, 38 PA15, 39 PB3, 40 PB4, 41 PB5, 42 PB6, 43 PB7, 44 BOOT0, 45 PB8, 46 PB9, 47 VSS (power), 48 VDD (power)
text: STM32F070CBT6

## STM32F217ZET6
designator U?
footprint TSQFP-144-L-0.5 (TSQFP, 144-Leads, Body 20.00x20.00mm, Pitch 0.50mm, IPC High Density)
footprint TSQFP-144-N-0.5 (TSQFP, 144-Leads, Body 20.00x20.00mm, Pitch 0.50mm, IPC Medium Density)
footprint TSQFP-144-M-0.5 (TSQFP, 144-Leads, Body 20.00x20.00mm, Pitch 0.50mm, IPC Low Density)
part A pins: 1 PE2 (io), 2 PE3 (io), 3 PE4 (io), 4 PE5 (io), 5 PE6 (io), 7 PC13 (io), 8 PC14/OSC32_IN (io), 9 PC15-OSC32_OUT (io), 25 NRST (io), 26 PC0 (io), 27 PC1 (io), 28 PC2 (io), 29 PC3 (io), 34 PA0-WKUP (io), 35 PA1 (io), 36 PA2 (io), 37 PA3 (io), 40 PA4 (io), 41 PA5 (io), 42 PA6 (io), 43 PA7 (io), 44 PC4 (io), 45 PC5 (io), 46 PB0 (io), 47 PB1 (io), 48 PB2 (io), 58 PE7 (io), 59 PE8 (io), 60 PE9 (io), 63 PE10 (io), 64 PE11 (io), 65 PE12 (io), 66 PE13 (io), 67 PE14 (io), 68 PE15 (io), 69 PB10 (io), 70 PB11 (io), 73 PB12 (io), 74 PB13 (io), 75 PB14 (io), 76 PB15 (io), 77 PD8 (io), 78 PD9 (io), 79 PD10 (io), 80 PD11 (io), 81 PD12 (io), 82 PD13 (io), 85 PD14 (io), 86 PD15 (io), 96 PC6 (io), 97 PC7 (io), 98 PC8 (io), 99 PC9 (io), 100 PA8 (io), 101 PA9 (io), 102 PA10 (io), 103 PA11 (io), 104 PA12 (io), 105 PA13 (io), 109 PA14 (io), 110 PA15 (io), 111 PC10 (io), 112 PC11 (io), 113 PC12 (io), 114 PD0 (io), 115 PD1 (io), 116 PD2 (io), 117 PD3 (io), 118 PD4 (io), 119 PD5 (io), 122 PD6 (io), 123 PD7 (io), 133 PB3 (io), 134 PB4 (io), 135 PB5 (io), 136 PB6 (io), 137 PB7 (io), 138 BOOT0 (in), 139 PB8 (io), 140 PB9 (io), 141 PE0 (io), 142 PE1 (io)
part B pins: 10 PF0 (io), 11 PF1 (io), 12 PF2 (io), 13 PF3 (io), 14 PF4 (io), 15 PF5 (io), 18 PF6 (io), 19 PF7 (io), 20 PF8 (io), 21 PF9 (io), 22 PF10 (io), 23 PH0/OSC_IN (io), 24 PH1/OSC_OUT (io), 49 PF11 (io), 50 PF12 (io), 53 PF13 (io), 54 PF14 (io), 55 PF15 (io), 56 PG0 (io), 57 PG1 (io), 87 PG2 (io), 88 PG3 (io), 89 PG4 (io), 90 PG5 (io), 91 PG6 (io), 92 PG7 (io), 93 PG8 (io), 124 PG9 (io), 125 PG10 (io), 126 PG11 (io), 127 PG12 (io), 128 PG13 (io), 129 PG14 (io), 132 PG15 (io), 143 RFU
part C pins: 6 VBAT (power), 16 VSS (power), 17 VDD (power), 30 VDD (power), 31 VSSA (power), 32 VREF+ (power), 33 VDDA (power), 38 VSS (power), 39 VDD (power), 51 VSS (power), 52 VDD (power), 61 VSS (power), 62 VDD (power), 71 VCAP_1 (power), 72 VDD (power), 83 VSS (power), 84 VDD (power), 94 VSS (power), 95 VDD (power), 106 VCAP_2 (power), 107 VSS (power), 108 VDD (power), 120 VSS (power), 121 VDD (power), 130 VSS (power), 131 VDD (power), 144 VDD (power)
part A text: 1 of 3
part B text: 2 of 3
part C text: 3 of 3

## STM32G030CB
designator U?, comment STM32G030C8
footprint TSQFP-48-M (TSQFP, 48-Leads, Body 7.00x7.00mm, Pitch 0.50mm, IPC Low Density)
footprint TSQFP-48-N (TSQFP, 48-Leads, Body 7.00x7.00mm, Pitch 0.50mm, IPC Medium Density)
footprint TSQFP-48-L (TSQFP, 48-Leads, Body 7.00x7.00mm, Pitch 0.50mm, IPC High Density)
pins: 1 PC13 (power), 2 PC14-OSC32-IN, 3 PC15-OSC32-OUT, 4 VBAT, 5 VREF+, 6 VDD/VDDA, 7 VSS/VSSA, 8 PF0-OSC_IN (power), 9 PF1-OSC_OUT  (power), 10 NRST, 11 PA0, 12 PA1, 13 PA2, 14 PA3, 15 PA4, 16 PA5, 17 PA6, 18 PA7, 19 PB0, 20 PB1, 21 PB2, 22 PB10, 23 PB11 (power), 24 PB12 (power), 25 PB13, 26 PB14, 27 PB15, 28 PA8, 29 PA9, 30 PC6, 31 PC7, 32 PA10, 33 PA11, 34 PA12, 35 PA13 (power), 36 PA14-BOOT0 (power), 37 PA15, 38 PD0, 39 PD1, 40 PD2, 41 PD3, 42 PB3, 43 PB4, 44 PB5, 45 PB6, 46 PB7, 47 PB8 (power), 48 PB9 (power)

## STM32G030F6P6
designator U?
footprint TSOP-20-M (TSOP, 20-Leads, Body 6.50x4.40mm, Pitch 0.65mm, IPC Low Density)
footprint TSOP-20-N (TSOP, 20-Leads, Body 6.50x4.40mm, Pitch 0.65mm, IPC Medium Density)
footprint TSOP-20-L (TSOP, 20-Leads, Body 6.50x4.40mm, Pitch 0.65mm, IPC High Density)
pins: 1 PB7/PB8 (power), 2 PB9/PC14-OSC32_IN (power), 3 PC15-OSC32_OUT (power), 4 VDD/VDDA (power), 5 VSS/VSSA (power), 6 NRST (power), 7 PA0 (power), 8 PA1 (power), 9 PA2 (power), 10 PA3 (power), 11 PA4 (power), 12 PA5 (power), 13 PA6 (power), 14 PA7 (power), 15 PB0/PB1/PB2/PA8  (power), 16 PA11[PA9]  (power), 17 PA12[PA10]  (power), 18 PA13 (power), 19 PA15/PA14-BOOT0  (power), 20 PB3/PB4/PB5/PB6  (power)

## STM32G070RBT6
designator U?
footprint TSQFP-64-M (TSQFP, 64-Leads, Body 10,00x10,00mm, Pitch 0,50mm, IPC Low Density)
footprint TSQFP-64-N (TSQFP, 64-Leads, Body 10,00x10,00mm, Pitch 0,50mm, IPC Medium Density)
footprint TSQFP-64-L (TSQFP, 64-Leads, Body 10,00x10,00mm, Pitch 0,50mm, IPC High Density)
pins: 1 PC11 (power), 2 PC12, 3 PC13, 4 PC14-OSC32-IN, 5 PC15-OSC32-OUT, 6 VBAT, 7 VREF+, 8 VDD/VDDA (power), 9 VSS/VSSA (power), 10 PF0-OSC-IN, 11 PF1-OSC-OUT, 12 NRST, 13 PC0, 14 PC1, 15 PC2, 16 PC3, 17 PA0, 18 PA1, 19 PA2, 20 PA3, 21 PA4, 22 PA5, 23 PA6, 24 PA7, 25 PC4, 26 PC5, 27 PB0, 28 PB1, 29 PB2, 30 PB10, 31 PB11, 32 PB12, 33 PB13, 34 PB14, 35 PB15 (power), 36 PA8 (power), 37 PA9, 38 PC6, 39 PC7, 40 PD8, 41 PD9, 42 PA10, 43 PA11 [PA9], 44 PA12 [PA10], 45 PA13, 46 PA14-BOOT0, 47 PA15 (power), 48 PC8 (power), 49 PC9, 50 PD0, 51 PD1, 52 PD2, 53 PD3, 54 PD4, 55 PD5, 56 PD5, 57 PB3, 58 PB4, 59 PB5, 60 PB6, 61 PB7, 62 PB8, 63 PB9, 64 PC10

## STM32G431RB
designator U?
footprint TSQFP-64-M (TSQFP, 64-Leads, Body 10,00x10,00mm, Pitch 0,50mm, IPC Low Density)
footprint TSQFP-64-N (TSQFP, 64-Leads, Body 10,00x10,00mm, Pitch 0,50mm, IPC Medium Density)
footprint TSQFP-64-L (TSQFP, 64-Leads, Body 10,00x10,00mm, Pitch 0,50mm, IPC High Density)
pins: 1 VBAT (power), 2 PC13, 3 PC14-OSC32-IN, 4 PC15-OSC32-OUT, 5 PF0-OSC-IN, 6 PF1-OSC-OUT, 7 PG10-NRST, 8 PC0, 9 PC1, 10 PC2, 11 PC3, 12 PA0, 13 PA1, 14 PA2, 15 VSS, 16 VDD, 17 PA3, 18 PA4, 19 PA5, 20 PA6, 21 PA7, 22 PC4, 23 PC5, 24 PB0, 25 PB1, 26 PB2, 27 VSSA, 28 VREF+, 29 VDDA, 30 PB10, 31 VSS, 32 VDD, 33 PB11, 34 PB12, 35 PB13, 36 PB14, 37 PB15, 38 PC6, 39 PC7, 40 PC8, 41 PC9, 42 PA8, 43 PA9, 44 PA10, 45 PA11, 46 PA12, 47 VSS, 48 VDD, 49 PA13, 50 PA14, 51 PA15, 52 PC10, 53 PC11, 54 PC12, 55 PD2, 56 PB3, 57 PB4, 58 PB5, 59 PB6, 60 PB7, 61 PB8-BOOT, 62 PB9, 63 VSS, 64 VDD

## TCS34715FN
designator U?
pins: 1 VDD, 2 SCL, 3 GND, 4 NC, 5 INT, 6 SDA

## TJA1021T
designator U?
footprint SOIC-8-M (SOIC, 8-Leads, Body 4.90x3.90mm, Pitch 1.27mm, IPC Low Density)
footprint SOIC-8-N (SOIC, 8-Leads, Body 4.90x3.90mm, Pitch 1.27mm, IPC Medium Density)
footprint SOIC-8-L (SOIC, 8-Leads, Body 4.90x3.90mm, Pitch 1.27mm, IPC High Density)
pins: 1 RXD, 2 ~{SLP}, 3 ~{WAKE}, 4 TXD, 5 GND, 6 LIN, 7 VBT, 8 INH

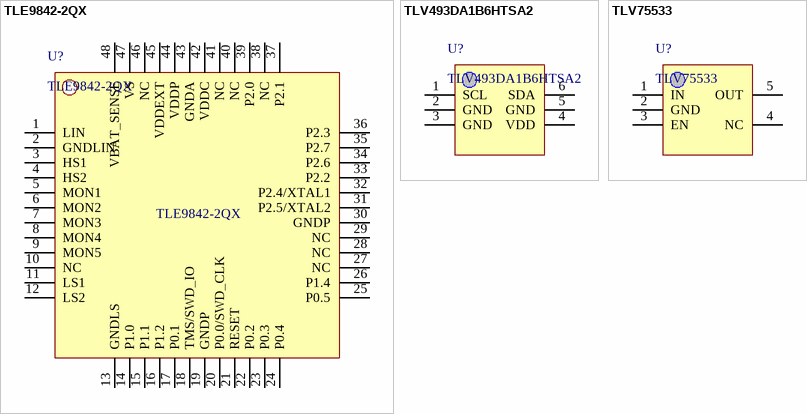
[diagram p3: symbols TLE9842-2QX to TLV75533]

## TLE9842-2QX
designator U?
footprint VQFN-48-M-05 (QFN, 48-Leads, Body 7,00x7,00mm, Pitch 0,50mm, Thermal Pad 5,15x5,15mm, IPC Low Density)
footprint VQFN-48-N-05 (QFN, 48-Leads, Body 7,00x7,00mm, Pitch 0,50mm, Thermal Pad 5,15x5,15mm, IPC Medium Density)
footprint VQFN-48-L-05 (QFN, 48-Leads, Body 7,00x7,00mm, Pitch 0,50mm, Thermal Pad 5,15x5,15mm, IPC High Density)
pins: 1 LIN (power), 2 GNDLIN, 3 HS1, 4 HS2, 5 MON1, 6 MON2, 7 MON3, 8 MON4 (power), 9 MON5 (power), 10 NC, 11 LS1, 12 LS2, 13 GNDLS, 14 P1.0, 15 P1.1, 16 P1.2, 17 P0.1, 18 TMS/SWD_IO, 19 GNDP, 20 P0.0/SWD_CLK, 21 RESET, 22 P0.2, 23 P0.3 (power), 24 P0.4 (power), 25 P0.5, 26 P1.4, 27 NC, 28 NC, 29 NC, 30 GNDP, 31 P2.5/XTAL2, 32 P2.4/XTAL1, 33 P2.2, 34 P2.6, 35 P2.7 (power), 36 P2.3 (power), 37 P2.1, 38 NC, 39 P2.0, 40 NC, 41 NC, 42 VDDC, 43 GNDA, 44 VDDP, 45 VDDEXT, 46 NC, 47 VS (power), 48 VBAT_SENSE (power)

## TLV493DA1B6HTSA2
designator U?
footprint TSOP-6-M (TSOP, 6-Leads, Body 2.90x1.60mm, Pitch 0.95mm, IPC Low Density)
footprint TSOP-6-N (TSOP, 6-Leads, Body 2.90x1.60mm, Pitch 0.95mm, IPC Medium Density)
footprint TSOP-6-L (TSOP, 6-Leads, Body 2.90x1.60mm, Pitch 0.95mm, IPC High Density)
pins: 1 SCL, 2 GND, 3 GND, 4 VDD, 5 GND, 6 SDA

## TLV75533
designator U?
footprint SOT23-5-M (SOT23, 5-Leads, Body 2,90x2,45mm, Pitch 0,95mm, IPC Low Density)
footprint SOT23-5-N (SOT23, 5-Leads, Body 2,90x2,45mm, Pitch 0,95mm, IPC Medium Density)
footprint SOT23-5-L (SOT23, 5-Leads, Body 2,90x2,45mm, Pitch 0,95mm, IPC High Density)
pins: 1 IN, 2 GND, 3 EN, 4 NC, 5 OUT